# Altium footprint library Miscellaneous Connector WGY.PcbLib: 5 footprints
Each footprint in its own frame and in the unit in brackets; x right, y up, seen from the top. Pads: shape width x height; smd on the part's side, far side on the other; paste and mask are expansions set on the pad; w line width, h text height; cw(c..) or ccw(c..) is an arc to the next point about the centre after c.
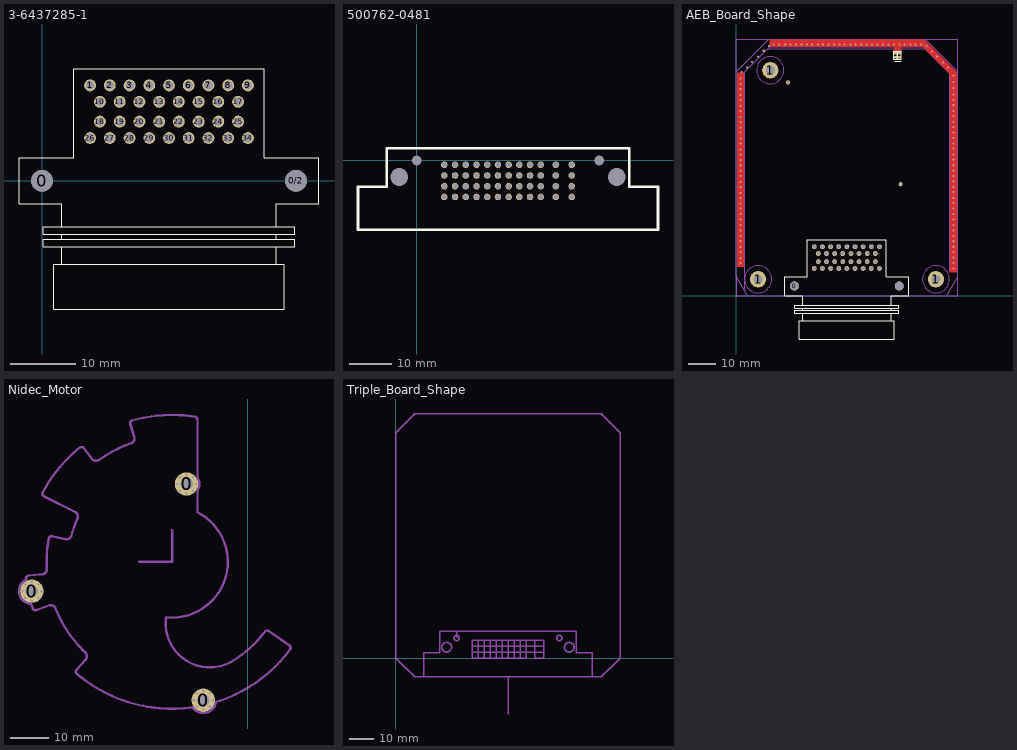
[diagram p0: the footprints below, top view; thin cyan lines are the x and y axes]

## 3-6437285-1 [mm]
pads (36):
  round 3.3 hole 3.3: 0(0,0) 0/2(38.6,0)
  round 1.8 hole 1.3: 1(7.3,14.5) 2(10.3,14.5) 3(13.3,14.5) 4(16.3,14.5) 5(19.3,14.5) 6(22.3,14.5) 7(25.3,14.5) 8(28.3,14.5) 9(31.3,14.5) 10(8.8,12) 11(11.8,12) 12(14.8,12) 13(17.8,12) 14(20.8,12) 15(23.8,12) 16(26.8,12) 17(29.8,12) 18(8.8,9) 19(11.8,9) 20(14.8,9) 21(17.8,9) 22(20.8,9) 23(23.8,9) 24(26.8,9) 25(29.8,9) 26(7.3,6.5) 27(10.3,6.5) 28(13.3,6.5) 29(16.3,6.5) 30(19.3,6.5) 31(22.3,6.5) 32(25.3,6.5) 33(28.3,6.5) 34(31.3,6.5)
Top Overlay:
  lines w0.1: 0.701,-10 38.428,-10 38.428,-8.9 0.701,-8.9 ; 0.701,-8.1 38.428,-8.1 38.428,-7 0.701,-7 ; 1.901,-12.7 36.8,-12.7 ; 35.6,-10 35.6,-12.7 36.8,-12.7 ; 35.6,-8.9 35.6,-8.1 ; 35.6,-7 35.6,-3.5 42.1,-3.5 42.1,3.5 33.8,3.5 33.8,17 4.8,17 4.8,3.5 -3.5,3.5 -3.5,-3.5 3,-3.5 3,-7 0.172,-7 0.172,-8.1 3,-8.1 3,-8.9 0.172,-8.9 0.172,-10 3,-10 3,-12.7 1.8,-12.7 1.8,-19.5 36.8,-19.5 36.8,-12.7
3D body "c-3-6437285-1-c-3d.stp": height 28.3, standoff -3.85, extent -3.446,-19.482 42.054,17.018

## 500762-0481 [mm] "Molex 48Pin"
pads (52):
  round 1.524 hole 1.2: A1(6.45,-1) A2(6.45,-3.5) A3(6.45,-6) A4(6.45,-8.5) B1(8.95,-1) B2(8.95,-3.5) B3(8.95,-6) B4(8.95,-8.5) C1(11.45,-1) C2(11.45,-3.5) C3(11.45,-6) C4(11.45,-8.5) D1(13.95,-1) D2(13.95,-3.5) D3(13.95,-6) D4(13.95,-8.5) E1(16.45,-1) E2(16.45,-3.5) E3(16.45,-6) E4(16.45,-8.5) F1(18.95,-1) F2(18.95,-3.5) F3(18.95,-6) F4(18.95,-8.5) G1(21.45,-1) G2(21.45,-3.5) G3(21.45,-6) G4(21.45,-8.5) H1(23.95,-1) H2(23.95,-3.5) H3(23.95,-6) H4(23.95,-8.5) J1(26.45,-1) J2(26.45,-3.5) J3(26.45,-6) J4(26.45,-8.5) K1(28.95,-1) K2(28.95,-3.5) K3(28.95,-6) K4(28.95,-8.5) L1(32.45,-1) L2(32.45,-3.5) L3(32.45,-6) L4(32.45,-8.5) M1(36.15,-1) M2(36.15,-3.5) M3(36.15,-6) M4(36.15,-8.5)
  round 1.524 hole 4.1: null(-4.1,-3.85) null(46.7,-3.85)
  round 1.524 hole 2.3: null(0,0) null(42.6,0)
Top Overlay:
  lines w0.6: -13.7,-16.15 -13.7,-6.15 -6.98,-6.15 -6.98,2.85 21.3,2.85 49.58,2.85 49.58,-6.15 56.3,-6.15 56.3,-16.15 21.3,-16.15 -13.7,-16.15

## AEB_Board_Shape [mm]
pads (45):
  round 3.3 hole 3.3: 0(21.4,3.495) 0/2(60,3.495)
  round 6 hole 3.3: 1(8,6) 1(12.5,83) 1(73.5,6)
  round 1.524 hole 0.762: 1(19,78.5) 2(60.5,41)
  round 1.8 hole 1.3: 1(28.7,17.995) 2(31.7,17.995) 3(34.7,17.995) 4(37.7,17.995) 5(40.7,17.995) 6(43.7,17.995) 7(46.7,17.995) 8(49.7,17.995) 9(52.7,17.995) 10(30.2,15.495) 11(33.2,15.495) 12(36.2,15.495) 13(39.2,15.495) 14(42.2,15.495) 15(45.2,15.495) 16(48.2,15.495) 17(51.2,15.495) 18(30.2,12.495) 19(33.2,12.495) 20(36.2,12.495) 21(39.2,12.495) 22(42.2,12.495) 23(45.2,12.495) 24(48.2,12.495) 25(51.2,12.495) 26(28.7,9.995) 27(31.7,9.995) 28(34.7,9.995) 29(37.7,9.995) 30(40.7,9.995) 31(43.7,9.995) 32(46.7,9.995) 33(49.7,9.995) 34(52.7,9.995)
  rect 1x0.9 smd: 1(58.61,87.719) 1(60.11,89.331) 2(58.61,89.319) 2(60.11,87.731)
via 1.5,72 diameter 0.762 hole 0.406
via 1.5,76 diameter 0.762 hole 0.406
via 8,88 diameter 0.762 hole 0.406
via 12,92 diameter 0.762 hole 0.406
via 4,84 diameter 0.762 hole 0.406
via 10.096,90.17 diameter 0.762 hole 0.406
via 1.968,82.296 diameter 0.762 hole 0.406
via 5.778,86.106 diameter 0.762 hole 0.406
via 66,92.5 diameter 0.762 hole 0.406
via 68.008,92.456 diameter 0.762 hole 0.406
via 58,92.5 diameter 0.762 hole 0.406
via 62,92.5 diameter 0.762 hole 0.406
via 64.198,92.456 diameter 0.762 hole 0.406
via 60.134,92.456 diameter 0.762 hole 0.406
via 56.07,92.456 diameter 0.762 hole 0.406
via 46,92.5 diameter 0.762 hole 0.406
via 50,92.5 diameter 0.762 hole 0.406
via 54,92.5 diameter 0.762 hole 0.406
via 52.006,92.456 diameter 0.762 hole 0.406
via 47.942,92.456 diameter 0.762 hole 0.406
via 38,92.5 diameter 0.762 hole 0.406
via 42,92.5 diameter 0.762 hole 0.406
via 43.878,92.456 diameter 0.762 hole 0.406
via 39.814,92.456 diameter 0.762 hole 0.406
via 36.004,92.456 diameter 0.762 hole 0.406
via 26,92.5 diameter 0.762 hole 0.406
via 30,92.5 diameter 0.762 hole 0.406
via 34,92.5 diameter 0.762 hole 0.406
via 31.94,92.456 diameter 0.762 hole 0.406
via 27.876,92.456 diameter 0.762 hole 0.406
via 18,92.5 diameter 0.762 hole 0.406
via 22,92.5 diameter 0.762 hole 0.406
via 24.066,92.456 diameter 0.762 hole 0.406
via 20.002,92.456 diameter 0.762 hole 0.406
via 15.684,92.456 diameter 0.762 hole 0.406
via 74,88 diameter 0.762 hole 0.406
via 76.136,85.852 diameter 0.762 hole 0.406
via 80,81 diameter 0.762 hole 0.406
via 80,76.5 diameter 0.762 hole 0.406
via 80,72 diameter 0.762 hole 0.406
via 79.946,78.74 diameter 0.762 hole 0.406
via 79.946,74.1 diameter 0.762 hole 0.406
via 80,68 diameter 0.762 hole 0.406
via 80,64 diameter 0.762 hole 0.406
via 79.946,66.1 diameter 0.762 hole 0.406
via 79.946,62.1 diameter 0.762 hole 0.406
via 79.946,70.1 diameter 0.762 hole 0.406
via 80,60 diameter 0.762 hole 0.406
via 80,56 diameter 0.762 hole 0.406
via 80,52 diameter 0.762 hole 0.406
via 79.946,58.1 diameter 0.762 hole 0.406
via 79.946,54.1 diameter 0.762 hole 0.406
via 80,48 diameter 0.762 hole 0.406
via 80,44 diameter 0.762 hole 0.406
via 79.946,46.1 diameter 0.762 hole 0.406
via 79.946,42.1 diameter 0.762 hole 0.406
via 79.946,50.1 diameter 0.762 hole 0.406
via 80,40 diameter 0.762 hole 0.406
via 80,36 diameter 0.762 hole 0.406
via 80,32 diameter 0.762 hole 0.406
via 79.946,38.1 diameter 0.762 hole 0.406
via 79.946,34.1 diameter 0.762 hole 0.406
via 80,28 diameter 0.762 hole 0.406
via 80,24 diameter 0.762 hole 0.406
via 79.946,21.97 diameter 0.762 hole 0.406
via 79.946,25.97 diameter 0.762 hole 0.406
via 79.946,29.97 diameter 0.762 hole 0.406
via 80,20 diameter 0.762 hole 0.406
via 80,16 diameter 0.762 hole 0.406
via 80,12 diameter 0.762 hole 0.406
via 79.946,13.97 diameter 0.762 hole 0.406
via 79.946,17.97 diameter 0.762 hole 0.406
via 78,84 diameter 0.762 hole 0.406
via 79.946,9.906 diameter 0.762 hole 0.406
via 72.072,89.916 diameter 0.762 hole 0.406
via 70,92 diameter 0.762 hole 0.406
via 13.652,92.456 diameter 0.762 hole 0.406
via 1.5,80 diameter 0.762 hole 0.406
via 1.46,77.846 diameter 0.762 hole 0.406
via 1.46,73.846 diameter 0.762 hole 0.406
via 1.5,64 diameter 0.762 hole 0.406
via 1.5,68 diameter 0.762 hole 0.406
via 1.46,65.846 diameter 0.762 hole 0.406
via 1.46,61.846 diameter 0.762 hole 0.406
via 1.46,69.846 diameter 0.762 hole 0.406
via 1.5,52 diameter 0.762 hole 0.406
via 1.5,56 diameter 0.762 hole 0.406
via 1.5,60 diameter 0.762 hole 0.406
via 1.46,57.846 diameter 0.762 hole 0.406
via 1.46,53.846 diameter 0.762 hole 0.406
via 1.5,44 diameter 0.762 hole 0.406
via 1.5,48 diameter 0.762 hole 0.406
via 1.46,45.846 diameter 0.762 hole 0.406
via 1.46,41.846 diameter 0.762 hole 0.406
via 1.46,49.846 diameter 0.762 hole 0.406
via 1.5,36 diameter 0.762 hole 0.406
via 1.5,32 diameter 0.762 hole 0.406
via 1.5,40 diameter 0.762 hole 0.406
via 1.46,37.846 diameter 0.762 hole 0.406
via 1.46,33.846 diameter 0.762 hole 0.406
via 1.5,24 diameter 0.762 hole 0.406
via 1.5,28 diameter 0.762 hole 0.406
via 1.46,21.907 diameter 0.762 hole 0.406
via 1.46,26.035 diameter 0.762 hole 0.406
via 1.46,30.035 diameter 0.762 hole 0.406
via 1.5,20 diameter 0.762 hole 0.406
via 1.5,16 diameter 0.762 hole 0.406
via 1.5,12 diameter 0.762 hole 0.406
via 1.46,13.906 diameter 0.762 hole 0.406
via 1.46,17.907 diameter 0.762 hole 0.406
Top Layer:
  region: 0.266,10.566 2.73,10.566 2.73,82.017 0.266,82.017
  region: 78.701,8.636 81.241,8.636 81.241,82.144 78.701,82.144
  region: 69.187,94.308 81.313,82.151 79.717,80.632 67.591,92.788
  region: 12.28,91.6 57.975,91.6 57.975,89.027 60.769,89.027 60.769,91.6 69.278,91.6 69.278,94.234 12.28,94.234
Mid-Layer 1:
  region: 78.701,8.636 80.9,8.636 80.9,82.144 78.701,82.144
  region: 12.28,91.6 69.278,91.6 69.278,93.9 12.28,93.9
  region: 69.3,93.9 81,82.2 79.7,80.9 68,92.6
  region: 0.6,10.617 2.73,10.617 2.73,82.017 0.6,82.017
Mid-Layer 2:
  region: 69.3,93.9 81,82.2 79.7,80.9 68,92.6
  region: 12.28,91.6 69.278,91.6 69.278,93.9 12.28,93.9
  region: 0.6,10.516 2.73,10.516 2.73,82.017 0.6,82.017
  region: 78.701,8.636 80.9,8.636 80.9,82.144 78.701,82.144
Bottom Layer:
  region: 0.6,10.871 2.705,10.871 2.705,80.569 0.6,80.569
  region: 16.979,91.592 69.2,91.592 69.2,93.9 16.979,93.9
  region: 69.3,93.9 81,82.2 79.7,80.9 68,92.6
  region: 78.828,8.915 80.9,8.915 80.9,82.1 78.828,82.1
Top Overlay:
  lines w0.1: 22.101,-6.505 59.828,-6.505 59.828,-5.405 22.101,-5.405 ; 22.101,-4.605 59.828,-4.605 59.828,-3.505 22.101,-3.505 ; 23.301,-9.205 58.2,-9.205 ; 57,-6.505 57,-9.205 58.2,-9.205 ; 57,-5.405 57,-4.605 ; 57,-3.505 57,-0.005 63.5,-0.005 63.5,6.995 55.2,6.995 55.2,20.495 26.2,20.495 26.2,6.995 17.9,6.995 17.9,-0.005 24.4,-0.005 24.4,-3.505 21.572,-3.505 21.572,-4.605 24.4,-4.605 24.4,-5.405 21.572,-5.405 21.572,-6.505 24.4,-6.505 24.4,-9.205 23.2,-9.205 23.2,-16.005 58.2,-16.005 58.2,-9.205
  lines w0.127: 57.975,87.045 57.975,90.005 59.221,90.005 59.221,87.045 57.975,87.045 ; 59.499,87.045 59.499,90.005 60.745,90.005 60.745,87.045 59.499,87.045
  lines w0.305: 58.356,86.367 60.642,86.367
Bottom Overlay:
  drawing of 3057 lines, arcs and shapes, not listed
Top Solder:
  region: 78.905,14.249 80.962,14.249 80.962,82.398 78.905,82.398
  region: 0.596,13.995 2.298,13.995 2.298,82.245 0.596,82.245
  region: 12.23,91.262 69.303,91.262 69.303,94.107 12.23,94.107
  lines w1.778: 12.585,93.066 13.474,93.066 ; 68.91,93.053 69.062,93.053 ; 80.073,80.874 80.073,82.042
  lines w2.032: 1.587,81.737 1.587,82.067 12.585,93.066 ; 69.037,92.977 80.048,81.966
Bottom Solder:
  region: 0.393,14.097 2.603,14.097 2.603,82.245 0.393,82.245
  region: 12.28,91.516 69.278,91.516 69.278,94.107 12.28,94.107
  region: 78.879,13.995 80.962,13.995 80.962,82.423 78.879,82.423
  lines w1.778: 1.358,81.864 1.358,82.067
  lines w2.032: 1.816,82.144 12.572,92.9 ; 67.805,93.066 68.948,93.066 80.073,81.94 80.073,81.305
Mechanical 1:
  lines w0.254: 0,7 4,0 77.5,0 81.5,7 81.5,82.5 69.5,94.5 12,94.5 0,82.5 0,7
Mechanical 116:
  circle w0.254: c73.5,6 r5
  circle w0.254: c12.5,83 r5
  circle w0.254: c8,6 r5
Mechanical 117:
  lines w0.076: 2.73,10.668 2.73,82.042 12.255,91.567 68.77,91.567 78.676,81.661 78.676,8.636
  lines w0.127: 16.9,0 64.6,0
  lines w0.254: 0,7.417 0,0 4.457,0 ; 0,82.245 0,94.5 12.128,94.5 ; 68.237,94.5 81.5,94.5 81.5,81.559 ; 77.127,0 81.5,0 81.5,7.366
Mechanical 118:
  lines w0.254: 3,1.741 3,82.5 11.5,91 69.312,91 78.5,81.812

## Nidec_Motor [mm]
pads (54):
  round 0.6 hole 0.6: 0(-57.804,80.59) 0(-57.804,80.59) 0(-57.101,78.893) 0(-57.101,78.893) 0(-57.101,82.287) 0(-57.101,82.287) 0(-55.404,78.19) 0(-55.404,78.19) 0(-55.404,82.99) 0(-55.404,82.99) 0(-53.707,78.893) 0(-53.707,78.893) 0(-53.707,82.287) 0(-53.707,82.287) 0(-53.004,80.59) 0(-53.004,80.59) 0(-18.104,108.089) 0(-18.104,108.089) 0(-17.401,106.392) 0(-17.401,106.392) 0(-17.401,109.786) 0(-17.401,109.786) 0(-15.704,105.689) 0(-15.704,105.689) 0(-15.704,110.489) 0(-15.704,110.489) 0(-14.007,106.392) 0(-14.007,106.392) 0(-14.007,109.786) 0(-14.007,109.786) 0(-13.813,52.595) 0(-13.813,52.595) 0(-13.304,108.089) 0(-13.304,108.089) 0(-13.11,50.898) 0(-13.11,50.898) 0(-13.11,54.292) 0(-13.11,54.292) 0(-11.413,50.195) 0(-11.413,50.195) 0(-11.413,54.995) 0(-11.413,54.995) 0(-9.716,50.898) 0(-9.716,50.898) 0(-9.716,54.292) 0(-9.716,54.292) 0(-9.013,52.595) 0(-9.013,52.595)
  round 6 hole 3.2: 0(-55.404,80.59) 0(-55.404,80.59) 0(-15.704,108.089) 0(-15.704,108.089) 0(-11.413,52.595) 0(-11.413,52.595)
Mechanical 1:
  lines w0.6: -55.536,77.297 cw(c-55.404,80.59) -56.84,83.557 -56.868,83.801 cw(c-56.172,83.88) -56.234,84.578 -52.745,84.883 ccw(c-52.858,86.177) -51.561,86.252 cw(c-19.416,88.093) -51.038,94.151 cw(c-50.351,94.019) -50.198,94.702 -46.78,93.935 ccw(c-46.495,95.202) -45.238,94.873 -45.118,95.316 -44.99,95.757 -44.855,96.195 -44.712,96.63 -44.562,97.063 -44.404,97.493 -44.239,97.921 -44.067,98.345 -43.887,98.768 -43.7,99.187 ccw(c-44.881,99.727) -44.299,100.889 -52.349,104.928 cw(c-52.034,105.554) -52.652,105.884 cw(c-19.427,88.108) -43.082,117.44 cw(c-42.642,116.894) -42.086,117.319 -39.961,114.536 ccw(c-38.928,115.323) -38.171,114.268 cw(c-19.413,88.101) -29.928,118.531 ccw(c-30.352,119.759) -29.112,120.147 -30.157,123.49 cw(c-29.488,123.698) -29.679,124.372 cw(c-19.41,88.121) -13.486,125.33 cw(c-13.597,124.638) -12.897,124.639 -12.897,109.813 cw(c-15.704,108.089) -12.897,106.365 -12.897,100.823 cw(c-19.408,88.093) -20.955,73.877 -21.005,73.303 ccw(c-9.752,72.315) -3.85,62.683 ccw(c-19.398,88.081) 4.422,70.209 cw(c4.982,69.788) 5.384,70.362 10.719,66.626 cw(c10.317,66.052) 10.88,65.636 cw(c-19.408,88.092) -8.154,52.106 cw(c-11.413,52.595) -14.147,50.756 cw(c-19.408,88.092) -43.875,59.403 cw(c-43.42,59.936) -43.941,60.404 -41.597,63.007 ccw(c-42.562,63.877) -41.665,64.816 cw(c-19.428,88.079) -49.328,76.178 ccw(c-50.535,75.698) -50.98,76.918 -54.271,75.721 cw(c-54.51,76.379) -55.174,76.157 cw(c-19.41,88.092) -55.535,77.299 ; -27.875,88.093 -19.408,88.093 -19.408,96.215

## Triple_Board_Shape [mm]
Mechanical 1:
  circle w0.6: c25.2,8.4 r1.1
  circle w0.6: c25.2,8.4 r1.1
  circle w0.6: c67.8,8.4 r1.1
  circle w0.6: c67.8,8.4 r1.1
  circle w0.6: c71.9,4.55 r2
  circle w0.6: c21.1,4.55 r2
  lines w0.6: 25.2,8.4 25.2,11.25 ; 31.65,2.4 54.15,2.4 61.35,2.4 ; 31.65,4.9 54.15,4.9 61.35,4.9 ; 34.15,-0.1 34.15,7.4 ; 36.65,-0.1 36.65,7.4 ; 39.15,-0.1 39.15,7.4 ; 41.65,-0.1 41.65,7.4 ; 44.15,-0.1 44.15,7.4 ; 46.5,-23.139 46.5,-7.75 ; 46.65,-0.1 46.65,7.4 ; 49.15,-0.1 49.15,7.4 ; 51.65,-0.1 51.65,7.4 ; 46.5,-7.75 81.5,-7.75 81.5,2.25 74.78,2.25 74.78,11.25 46.5,11.25 18.22,11.25 18.22,2.25 11.5,2.25 11.5,-7.75 46.5,-7.75 ; 54.15,7.4 31.65,7.4 31.65,-0.1 54.15,-0.1 54.15,7.4 ; 54.15,7.4 57.65,7.4 ; 57.65,7.4 61.35,7.4 61.35,-0.1 57.65,-0.1 57.65,7.4 ; 0,0 0,93.5 7.75,101.25 85.25,101.25 93,93.5 93,0 85.25,-7.75 7.75,-7.75 0,0